# Altium footprint library capae_1040x1040x1260.PcbLib: 1 footprints
Each footprint in its own frame and in the unit in brackets; x right, y up, seen from the top. Pads: shape width x height; smd on the part's side, far side on the other; paste and mask are expansions set on the pad; w line width, h text height; cw(c..) or ccw(c..) is an arc to the next point about the centre after c.
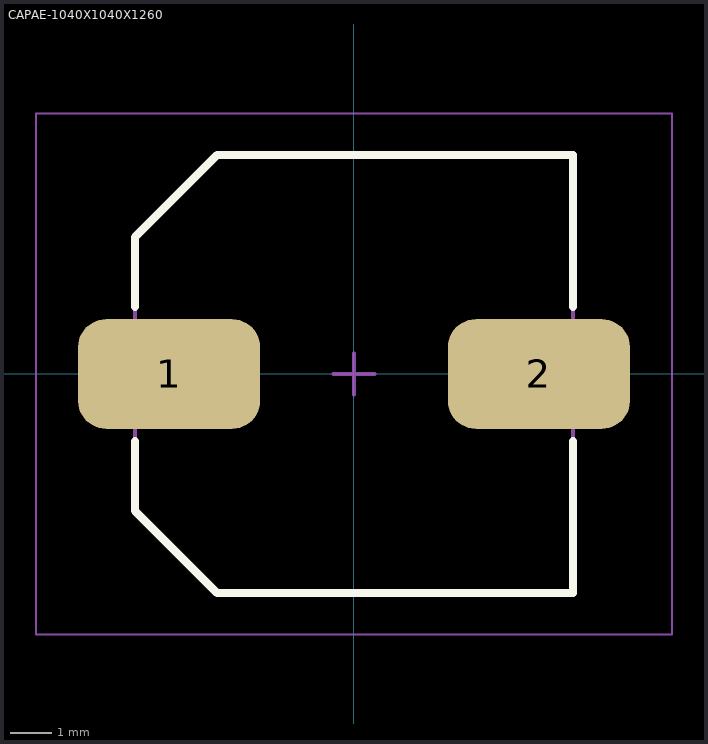
[diagram p0: the footprint, top view; thin cyan lines are the x and y axes]

## CAPAE-1040X1040X1260 [mm] "Aluminum Electrolytic Capacitor, Body 10,40x10,40x12,60mm, IPC Low Density"
height 12.7
pads (2):
  rrect50% 4.4x2.65 smd: 1(-4.475,0) 2(4.475,0)
Top Overlay:
  lines w0.2: -5.3,-1.625 -5.3,-3.312 -3.313,-5.3 5.3,-5.3 5.3,-1.625 ; -5.3,1.625 -5.3,3.313 -3.313,5.3 5.3,5.3 5.3,1.625
Top Comment:
  text ".Comment" at 1,7.5 h1.2
Top Designator:
  text ".Designator" at 0,7.5 h1.2
Top Component Outline:
  lines w0.1: -5.3,-3.312 -5.3,3.313 -3.313,5.3 5.3,5.3 5.3,-5.3 -3.313,-5.3 -5.3,-3.312
Top Courtyard (Mech15):
  lines w0.05: -7.7,-6.3 7.7,-6.3 7.7,6.3 -7.7,6.3 -7.7,-6.3
  lines w0.1: -0.5,0 0.5,0 ; 0,-0.5 0,0.5
3D body "CAPAE110104X126M.step": height 12.6, standoff 0, extent -5.5,-5.3 5.5,5.3